# Altium footprint library LED-4.PcbLib: 1 footprints
Each footprint in its own frame and in the unit in brackets; x right, y up, seen from the top. Pads: shape width x height; smd on the part's side, far side on the other; paste and mask are expansions set on the pad; w line width, h text height; cw(c..) or ccw(c..) is an arc to the next point about the centre after c.
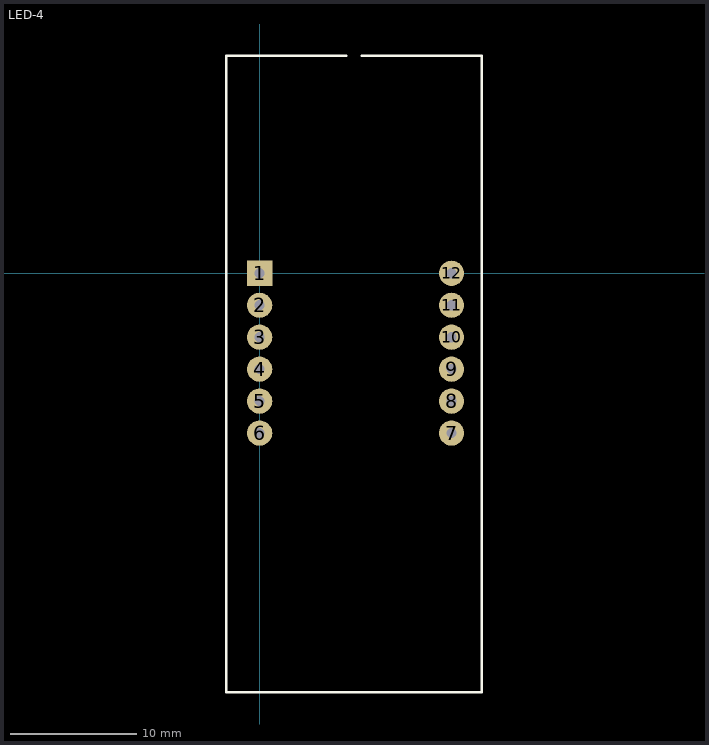
[diagram p0: the footprint, top view; thin cyan lines are the x and y axes]

## LED-4 [mm]
pads (12):
  rect 2x2 / inner round 1.524 / far side round 1.524 hole 0.8: 1(0,0)
  round 2 / inner round 1.524 / far side round 1.524 hole 0.8: 2(0,-2.54) 3(0,-5.08) 4(0,-7.62) 5(0,-10.16) 6(0,-12.7) 7(15.24,-12.7) 8(15.24,-10.16) 9(15.24,-7.62) 10(15.24,-5.08) 11(15.24,-2.54) 12(15.24,0)
Top Overlay:
  lines w0.2: 6.858,17.272 -2.667,17.272 -2.667,-33.274 17.653,-33.274 17.653,17.272 8.128,17.272